# Altium footprint library MLB_PCBLib.PcbLib: 75 footprints (part 5 of 5)
Each footprint in its own frame and in the unit in brackets; x right, y up, seen from the top. Pads: shape width x height; smd on the part's side, far side on the other; paste and mask are expansions set on the pad; w line width, h text height; cw(c..) or ccw(c..) is an arc to the next point about the centre after c.
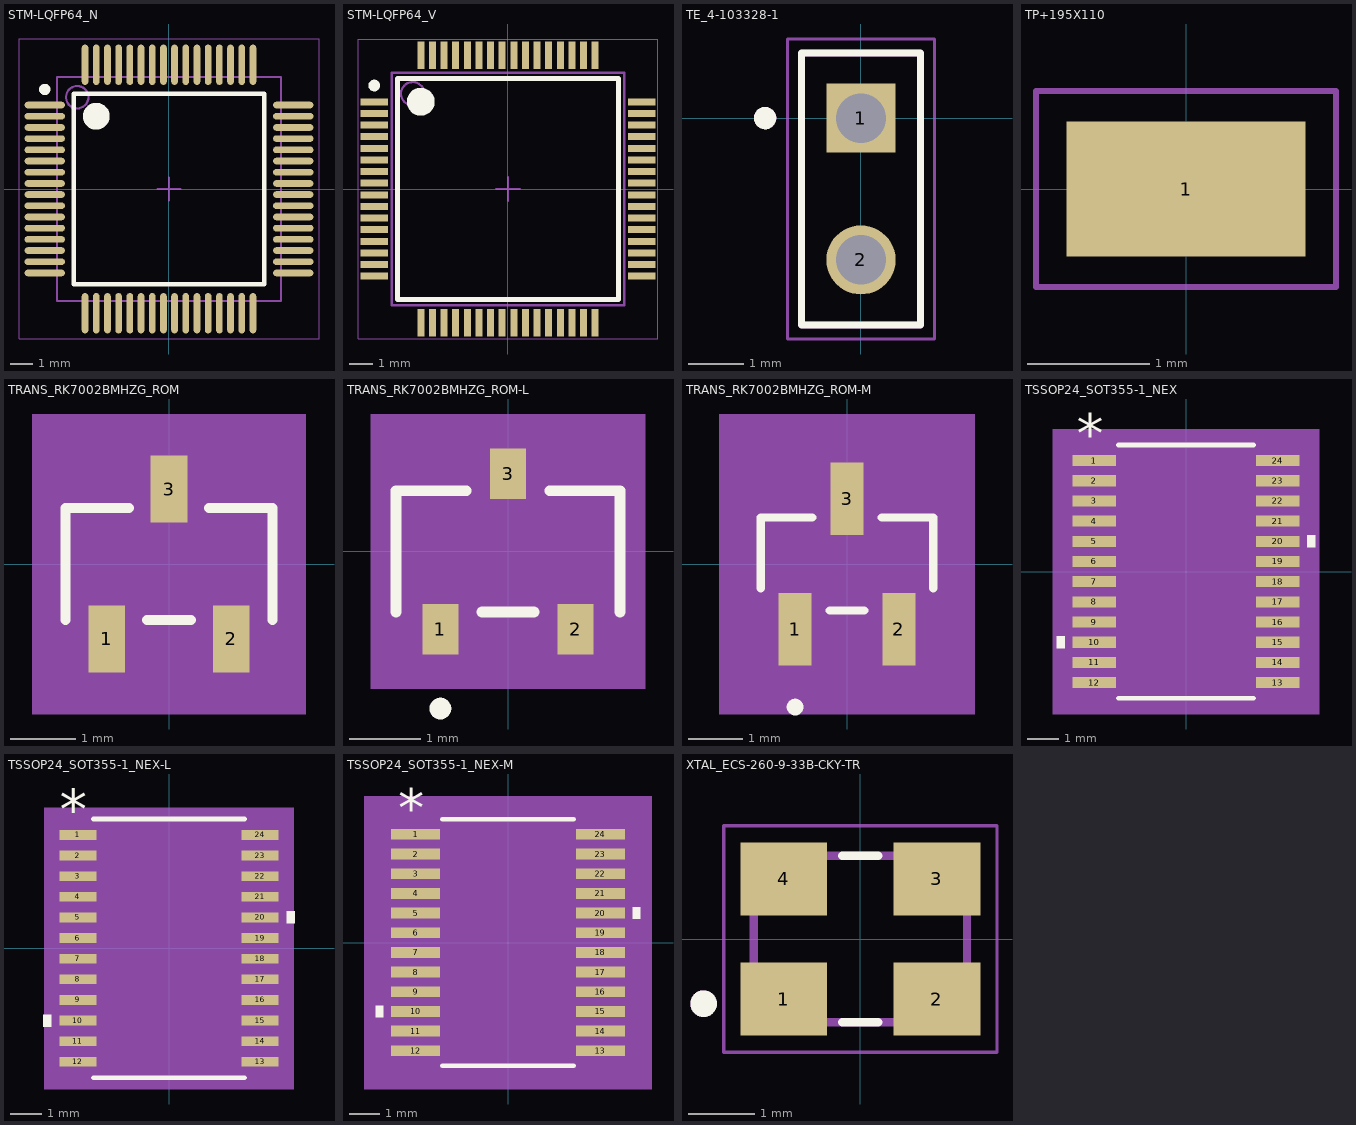
[diagram p4: the footprints below, top view; thin cyan lines are the x and y axes]

## STM-LQFP64_N [mm] "Thin QFP, 64-Leads, Body 10x10mm, Pitch 0.5mm, IPC Medium Density"
height 1.6
pads (64):
  oval 1.8x0.3 smd: 1(-5.55,3.75) 2(-5.55,3.25) 3(-5.55,2.75) 4(-5.55,2.25) 5(-5.55,1.75) 6(-5.55,1.25) 7(-5.55,0.75) 8(-5.55,0.25) 9(-5.55,-0.25) 10(-5.55,-0.75) 11(-5.55,-1.25) 12(-5.55,-1.75) 13(-5.55,-2.25) 14(-5.55,-2.75) 15(-5.55,-3.25) 16(-5.55,-3.75) 33(5.55,-3.75) 34(5.55,-3.25) 35(5.55,-2.75) 36(5.55,-2.25) 37(5.55,-1.75) 38(5.55,-1.25) 39(5.55,-0.75) 40(5.55,-0.25) 41(5.55,0.25) 42(5.55,0.75) 43(5.55,1.25) 44(5.55,1.75) 45(5.55,2.25) 46(5.55,2.75) 47(5.55,3.25) 48(5.55,3.75)
  oval 0.3x1.8 smd: 17(-3.75,-5.55) 18(-3.25,-5.55) 19(-2.75,-5.55) 20(-2.25,-5.55) 21(-1.75,-5.55) 22(-1.25,-5.55) 23(-0.75,-5.55) 24(-0.25,-5.55) 25(0.25,-5.55) 26(0.75,-5.55) 27(1.25,-5.55) 28(1.75,-5.55) 29(2.25,-5.55) 30(2.75,-5.55) 31(3.25,-5.55) 32(3.75,-5.55) 49(3.75,5.55) 50(3.25,5.55) 51(2.75,5.55) 52(2.25,5.55) 53(1.75,5.55) 54(1.25,5.55) 55(0.75,5.55) 56(0.25,5.55) 57(-0.25,5.55) 58(-0.75,5.55) 59(-1.25,5.55) 60(-1.75,5.55) 61(-2.25,5.55) 62(-2.75,5.55) 63(-3.25,5.55) 64(-3.75,5.55)
Top Overlay:
  circle w0.25: c-5.55,4.45 r0.125
  circle w0.6: c-3.25,3.25 r0.3
  lines w0.2: -4.25,-4.25 -4.25,4.25 4.25,4.25 4.25,-4.25 -4.25,-4.25
Mechanical 13:
  circle w0.1: c-4.1,4.1 r0.5
  lines w0.1: -5,-5 -5,5 5,5 5,-5 -5,-5
Mechanical 15:
  lines w0.05: -6.7,-6.7 -6.7,6.7 6.7,6.7 6.7,-6.7 -6.7,-6.7
  lines w0.1: -0.5,0 0.5,0 ; 0,-0.5 0,0.5
3D body: height 1.6, standoff 0.05, extent -5,-5 5,5

## STM-LQFP64_V [mm] "Thin QFP, 64-Leads, Body 10x10mm, Pitch 0.5mm, ST Recommended"
height 1.6
pads (64):
  rect 1.2x0.3 smd: 1(-5.75,3.75) 2(-5.75,3.25) 3(-5.75,2.75) 4(-5.75,2.25) 5(-5.75,1.75) 6(-5.75,1.25) 7(-5.75,0.75) 8(-5.75,0.25) 9(-5.75,-0.25) 10(-5.75,-0.75) 11(-5.75,-1.25) 12(-5.75,-1.75) 13(-5.75,-2.25) 14(-5.75,-2.75) 15(-5.75,-3.25) 16(-5.75,-3.75) 33(5.75,-3.75) 34(5.75,-3.25) 35(5.75,-2.75) 36(5.75,-2.25) 37(5.75,-1.75) 38(5.75,-1.25) 39(5.75,-0.75) 40(5.75,-0.25) 41(5.75,0.25) 42(5.75,0.75) 43(5.75,1.25) 44(5.75,1.75) 45(5.75,2.25) 46(5.75,2.75) 47(5.75,3.25) 48(5.75,3.75)
  rect 0.3x1.2 smd: 17(-3.75,-5.75) 18(-3.25,-5.75) 19(-2.75,-5.75) 20(-2.25,-5.75) 21(-1.75,-5.75) 22(-1.25,-5.75) 23(-0.75,-5.75) 24(-0.25,-5.75) 25(0.25,-5.75) 26(0.75,-5.75) 27(1.25,-5.75) 28(1.75,-5.75) 29(2.25,-5.75) 30(2.75,-5.75) 31(3.25,-5.75) 32(3.75,-5.75) 49(3.75,5.75) 50(3.25,5.75) 51(2.75,5.75) 52(2.25,5.75) 53(1.75,5.75) 54(1.25,5.75) 55(0.75,5.75) 56(0.25,5.75) 57(-0.25,5.75) 58(-0.75,5.75) 59(-1.25,5.75) 60(-1.75,5.75) 61(-2.25,5.75) 62(-2.75,5.75) 63(-3.25,5.75) 64(-3.75,5.75)
Top Overlay:
  circle w0.6: c-3.75,3.75 r0.3
  circle w0.25: c-5.75,4.45 r0.125
  lines w0.2: -4.75,-4.75 4.75,-4.75 4.75,4.75 -4.75,4.75 -4.75,-4.75
Mechanical 13:
  circle w0.1: c-4.1,4.1 r0.5
  lines w0.1: -5,-5 5,-5 5,5 -5,5 -5,-5
Mechanical 15:
  lines w0.05: -6.45,-6.45 6.45,-6.45 6.45,6.45 -6.45,6.45 -6.45,-6.45
  lines w0.1: -0.5,0 0.5,0 ; 0,-0.5 0,0.5
3D body: height 1.6, standoff 0.05, extent -5,-5 5,5

## TE_4-103328-1 [mm]
pads (2):
  rect 1.24x1.24 hole 0.89: 1(0,0)
  round 1.24 hole 0.89: 2(0,-2.54)
Top Overlay:
  circle w0.2: c-1.717,0 r0.1
  lines w0.127: -1.067,-3.708 1.067,-3.708 1.067,1.168 -1.067,1.168 -1.067,-3.708
Mechanical 13:
  circle w0.2: c-1.717,0 r0.1
  lines w0.127: -1.067,-3.708 1.067,-3.708 ; -1.067,-3.708 1.067,-3.708 ; -1.067,-3.708 -1.067,1.168 1.067,1.168 1.067,-3.708
Mechanical 15:
  lines w0.05: -1.317,-3.958 1.317,-3.958 1.317,1.418 -1.317,1.418 -1.317,-3.958

## TP+195X110 [mm]
pads (1):
  rect 1.95x1.1 smd: 1(0,0)
Mechanical 13:
  lines w0.127: -0.8,-0.45 -0.8,0.45 0.8,0.45 0.8,-0.45 -0.8,-0.45
Mechanical 15:
  lines w0.05: -1.225,-0.8 -1.225,0.8 1.225,0.8 1.225,-0.8 -1.225,-0.8
3D body "step_temp.STEP": height 0.58, standoff -0.58, extent -0.8,-0.42 0.8,0.42

## TRANS_RK7002BMHZG_ROM [mil]
pads (3):
  rect 22x40 smd paste+0 mask+0: 1(-37.4,-45) 2(37.4,-45) 3(0,45)
Top Overlay:
  lines w6: -62,-33.5 -62,33.5 -24.1,33.5 ; -13.3,-33.5 13.3,-33.5 ; 24.1,33.5 62,33.5 62,-33.5
Mechanical 5:
  region: -82,90 82,90 82,-90 -82,-90
Mechanical 13:
  lines w1: -57,-28.5 57,-28.5 57,28.5 -57,28.5 -57,-28.5 ; -47.4,-51 -47.4,-28.5 -27.4,-28.5 -27.4,-51 -47.4,-51 ; -10,28.5 10,28.5 10,51 -10,51 -10,28.5 ; 27.4,-51 27.4,-28.5 47.4,-28.5 47.4,-51 27.4,-51
Mechanical 15:
  region: -67,-38.5 -67,38.5 -20,38.5 -20,75 20,75 20,38.5 67,38.5 67,-38.5 57.4,-38.5 57.4,-75 -57.4,-75 -57.4,-38.5
  lines w6: -67,-38.5 -67,38.5 -20,38.5 -20,75 20,75 20,38.5 67,38.5 67,-38.5 57.4,-38.5 57.4,-75 -57.4,-75 -57.4,-38.5 -67,-38.5
3D body "TRANS_RK7002BMHZG_ROM.step": height 47.09, standoff 0, extent -57.01,-50.98 57.01,50.98

## TRANS_RK7002BMHZG_ROM-L [mil]
pads (3):
  rect 20x28 smd paste+0 mask+0: 1(-37.4,-43) 2(37.4,-43) 3(0,43)
Top Overlay:
  circle w6: c-37.4,-87 r3
  lines w6: -62,-33.5 -62,33.5 -23.1,33.5 ; -14.3,-33.5 14.3,-33.5 ; 23.1,33.5 62,33.5 62,-33.5
Mechanical 5:
  region: -76,76 76,76 76,-76 -76,-76
Mechanical 13:
  circle w0: c-37.4,-18.5 r3
  lines w1: -57,-28.5 57,-28.5 57,28.5 -57,28.5 -57,-28.5 ; -47.4,-51 -47.4,-28.5 -27.4,-28.5 -27.4,-51 -47.4,-51 ; -10,28.5 10,28.5 10,51 -10,51 -10,28.5 ; 27.4,-51 27.4,-28.5 47.4,-28.5 47.4,-51 27.4,-51
Mechanical 15:
  region: -61,-32.5 -61,32.5 -14,32.5 -14,61 14,61 14,32.5 61,32.5 61,-32.5 51.4,-32.5 51.4,-61 -51.4,-61 -51.4,-32.5
  lines w6: -61,-32.5 -61,32.5 -14,32.5 -14,61 14,61 14,32.5 61,32.5 61,-32.5 51.4,-32.5 51.4,-61 -51.4,-61 -51.4,-32.5 -61,-32.5
3D body "TRANS_RK7002BMHZG_ROM.step": height 47.09, standoff 0, extent -57.01,-50.98 57.01,50.98

## TRANS_RK7002BMHZG_ROM-M [mil]
pads (3):
  rect 24x52 smd paste+0 mask+0: 1(-37.4,-47) 2(37.4,-47) 3(0,47)
Top Overlay:
  circle w6: c-37.4,-103 r3
  lines w6: -62,-17.41 -62,33.5 -25.1,33.5 ; -12.3,-33.5 12.3,-33.5 ; 25.1,33.5 62,33.5 62,-17.41
Mechanical 5:
  region: -92,108 92,108 92,-108 -92,-108
Mechanical 13:
  circle w0: c-37.4,-18.5 r3
  lines w1: -57,-28.5 -57,28.5 57,28.5 57,-28.5 -57,-28.5 ; -47.4,-51 -27.4,-51 -27.4,-28.5 -47.4,-28.5 -47.4,-51 ; -10,28.5 -10,51 10,51 10,28.5 -10,28.5 ; 27.4,-51 47.4,-51 47.4,-28.5 27.4,-28.5 27.4,-51
Mechanical 15:
  region: -77,-48.5 -77,48.5 -30,48.5 -30,93 30,93 30,48.5 77,48.5 77,-48.5 67.4,-48.5 67.4,-93 -67.4,-93 -67.4,-48.5
  lines w6: -77,-48.5 -67.4,-48.5 -67.4,-93 67.4,-93 67.4,-48.5 77,-48.5 77,48.5 30,48.5 30,93 -30,93 -30,48.5 -77,48.5 -77,-48.5
3D body "TRANS_RK7002BMHZG_ROM.step": height 47.09, standoff 0, extent -57.01,-50.98 57.01,50.98

## TSSOP24_SOT355-1_NEX [mil]
pads (24):
  rect 55.5x14 smd paste+0 mask+0: 1(-116.25,140.75) 2(-116.25,115.16) 3(-116.25,89.57) 4(-116.25,63.98) 5(-116.25,38.39) 6(-116.25,12.8) 7(-116.25,-12.8) 8(-116.25,-38.39) 9(-116.25,-63.98) 10(-116.25,-89.57) 11(-116.25,-115.16) 12(-116.25,-140.75) 13(116.25,-140.75) 14(116.25,-115.16) 15(116.25,-89.57) 16(116.25,-63.98) 17(116.25,-38.39) 18(116.25,-12.8) 19(116.25,12.8) 20(116.25,38.39) 21(116.25,63.98) 22(116.25,89.57) 23(116.25,115.16) 24(116.25,140.75)
Top Overlay:
  region: -154,-82.07 -164,-82.07 -164,-97.07 -154,-97.07
  region: 154,45.89 164,45.89 164,30.89 154,30.89
  lines w6: -85.5,-160.5 85.5,-160.5 ; -85.5,160.5 85.5,160.5
  text "*" at -138.75,149.75 h50
Mechanical 5:
  region: 169,-180.5 -169,-180.5 -169,180.5 169,180.5
Mechanical 13:
  lines w0: -12,155.5 ccw(c0,155.5) 12,155.5
  lines w1: -130,-146.75 -130,-134.75 -88.5,-134.75 -88.5,-146.75 -130,-146.75 ; -130,-121.16 -130,-109.16 -88.5,-109.16 -88.5,-121.16 -130,-121.16 ; -130,-95.57 -130,-83.57 -88.5,-83.57 -88.5,-95.57 -130,-95.57 ; -130,-69.98 -130,-57.98 -88.5,-57.98 -88.5,-69.98 -130,-69.98 ; -130,-44.39 -130,-32.39 -88.5,-32.39 -88.5,-44.39 -130,-44.39 ; -130,-18.8 -130,-6.8 -88.5,-6.8 -88.5,-18.8 -130,-18.8 ; -130,6.8 -130,18.8 -88.5,18.8 -88.5,6.8 -130,6.8 ; -130,32.39 -130,44.39 -88.5,44.39 -88.5,32.39 -130,32.39 ; -130,57.98 -130,69.98 -88.5,69.98 -88.5,57.98 -130,57.98 ; -130,83.57 -130,95.57 -88.5,95.57 -88.5,83.57 -130,83.57 ; -130,109.16 -130,121.16 -88.5,121.16 -88.5,109.16 -130,109.16 ; -130,134.75 -130,146.75 -88.5,146.75 -88.5,134.75 -130,134.75 ; -88.5,-155.5 88.5,-155.5 88.5,155.5 -88.5,155.5 -88.5,-155.5 ; 88.5,-146.75 88.5,-134.75 130,-134.75 130,-146.75 88.5,-146.75 ; 88.5,-121.16 88.5,-109.16 130,-109.16 130,-121.16 88.5,-121.16 ; 88.5,-95.57 88.5,-83.57 130,-83.57 130,-95.57 88.5,-95.57 ; 88.5,-69.98 88.5,-57.98 130,-57.98 130,-69.98 88.5,-69.98 ; 88.5,-44.39 88.5,-32.39 130,-32.39 130,-44.39 88.5,-44.39 ; 88.5,-18.8 88.5,-6.8 130,-6.8 130,-18.8 88.5,-18.8 ; 88.5,6.8 88.5,18.8 130,18.8 130,6.8 88.5,6.8 ; 88.5,32.39 88.5,44.39 130,44.39 130,32.39 88.5,32.39 ; 88.5,57.98 88.5,69.98 130,69.98 130,57.98 88.5,57.98 ; 88.5,83.57 88.5,95.57 130,95.57 130,83.57 88.5,83.57 ; 88.5,109.16 88.5,121.16 130,121.16 130,109.16 88.5,109.16 ; 88.5,134.75 88.5,146.75 130,146.75 130,134.75 88.5,134.75
  text "*" at -86,102.5 h50
Mechanical 15:
  region: -98.5,-157.75 -154,-157.75 -154,157.75 -98.5,157.75 -98.5,165.5 98.5,165.5 98.5,157.75 154,157.75 154,-157.75 98.5,-157.75 98.5,-165.5 -98.5,-165.5
  lines w6: -154,-157.75 -154,157.75 -98.5,157.75 -98.5,165.5 98.5,165.5 98.5,157.75 154,157.75 154,-157.75 98.5,-157.75 98.5,-165.5 -98.5,-165.5 -98.5,-157.75 -154,-157.75
3D body "TSSOP24_SOT355-1_NEX.step": height 43.11, standoff 0, extent -130,-155.51 130,155.51

## TSSOP24_SOT355-1_NEX-L [mil]
pads (24):
  rect 46x12 smd paste+0 mask+0: 1(-113,140.75) 2(-113,115.16) 3(-113,89.57) 4(-113,63.98) 5(-113,38.39) 6(-113,12.8) 7(-113,-12.8) 8(-113,-38.39) 9(-113,-63.98) 10(-113,-89.57) 11(-113,-115.16) 12(-113,-140.75) 13(113,-140.75) 14(113,-115.16) 15(113,-89.57) 16(113,-63.98) 17(113,-38.39) 18(113,-12.8) 19(113,12.8) 20(113,38.39) 21(113,63.98) 22(113,89.57) 23(113,115.16) 24(113,140.75)
Top Overlay:
  region: 146,45.89 156,45.89 156,30.89 146,30.89
  region: -146,-82.07 -156,-82.07 -156,-97.07 -146,-97.07
  lines w6: -93.5,-160.5 93.5,-160.5 ; -93.5,160.5 93.5,160.5
  text "*" at -135.5,147.75 h50
Mechanical 5:
  region: 155,-174.5 -155,-174.5 -155,174.5 155,174.5
Mechanical 13:
  lines w0: -12,155.5 ccw(c0,155.5) 12,155.5
  lines w1: -130,-146.75 -88.5,-146.75 -88.5,-134.75 -130,-134.75 -130,-146.75 ; -130,-121.16 -88.5,-121.16 -88.5,-109.16 -130,-109.16 -130,-121.16 ; -130,-95.57 -88.5,-95.57 -88.5,-83.57 -130,-83.57 -130,-95.57 ; -130,-69.98 -88.5,-69.98 -88.5,-57.98 -130,-57.98 -130,-69.98 ; -130,-44.39 -88.5,-44.39 -88.5,-32.39 -130,-32.39 -130,-44.39 ; -130,-18.8 -88.5,-18.8 -88.5,-6.8 -130,-6.8 -130,-18.8 ; -130,6.8 -88.5,6.8 -88.5,18.8 -130,18.8 -130,6.8 ; -130,32.39 -88.5,32.39 -88.5,44.39 -130,44.39 -130,32.39 ; -130,57.98 -88.5,57.98 -88.5,69.98 -130,69.98 -130,57.98 ; -130,83.57 -88.5,83.57 -88.5,95.57 -130,95.57 -130,83.57 ; -130,109.16 -88.5,109.16 -88.5,121.16 -130,121.16 -130,109.16 ; -130,134.75 -88.5,134.75 -88.5,146.75 -130,146.75 -130,134.75 ; -88.5,-155.5 -88.5,155.5 88.5,155.5 88.5,-155.5 -88.5,-155.5 ; 88.5,-146.75 130,-146.75 130,-134.75 88.5,-134.75 88.5,-146.75 ; 88.5,-121.16 130,-121.16 130,-109.16 88.5,-109.16 88.5,-121.16 ; 88.5,-95.57 130,-95.57 130,-83.57 88.5,-83.57 88.5,-95.57 ; 88.5,-69.98 130,-69.98 130,-57.98 88.5,-57.98 88.5,-69.98 ; 88.5,-44.39 130,-44.39 130,-32.39 88.5,-32.39 88.5,-44.39 ; 88.5,-18.8 130,-18.8 130,-6.8 88.5,-6.8 88.5,-18.8 ; 88.5,6.8 130,6.8 130,18.8 88.5,18.8 88.5,6.8 ; 88.5,32.39 130,32.39 130,44.39 88.5,44.39 88.5,32.39 ; 88.5,57.98 130,57.98 130,69.98 88.5,69.98 88.5,57.98 ; 88.5,83.57 130,83.57 130,95.57 88.5,95.57 88.5,83.57 ; 88.5,109.16 130,109.16 130,121.16 88.5,121.16 88.5,109.16 ; 88.5,134.75 130,134.75 130,146.75 88.5,146.75 88.5,134.75
  text "*" at -86,102.5 h50
Mechanical 15:
  region: -92.5,-150.75 -140,-150.75 -140,150.75 -92.5,150.75 -92.5,159.5 92.5,159.5 92.5,150.75 140,150.75 140,-150.75 92.5,-150.75 92.5,-159.5 -92.5,-159.5
  lines w6: -140,-150.75 -92.5,-150.75 -92.5,-159.5 92.5,-159.5 92.5,-150.75 140,-150.75 140,150.75 92.5,150.75 92.5,159.5 -92.5,159.5 -92.5,150.75 -140,150.75 -140,-150.75
3D body "TSSOP24_SOT355-1_NEX.step": height 43.11, standoff 0, extent -130,-155.51 130,155.51

## TSSOP24_SOT355-1_NEX-M [mil]
pads (24):
  rect 63.5x14 smd paste+0 mask+0: 1(-120.25,140.75) 2(-120.25,115.16) 3(-120.25,89.57) 4(-120.25,63.98) 5(-120.25,38.39) 6(-120.25,12.8) 7(-120.25,-12.8) 8(-120.25,-38.39) 9(-120.25,-63.98) 10(-120.25,-89.57) 11(-120.25,-115.16) 12(-120.25,-140.75) 13(120.25,-140.75) 14(120.25,-115.16) 15(120.25,-89.57) 16(120.25,-63.98) 17(120.25,-38.39) 18(120.25,-12.8) 19(120.25,12.8) 20(120.25,38.39) 21(120.25,63.98) 22(120.25,89.57) 23(120.25,115.16) 24(120.25,140.75)
Top Overlay:
  region: 162,45.89 172,45.89 172,30.89 162,30.89
  region: -162,-82.07 -172,-82.07 -172,-97.07 -162,-97.07
  lines w6: -85.5,-160.5 85.5,-160.5 ; -85.5,160.5 85.5,160.5
  text "*" at -142.75,149.75 h50
Mechanical 5:
  region: 187,-190.5 -187,-190.5 -187,190.5 187,190.5
Mechanical 13:
  lines w0: -12,155.5 ccw(c0,155.5) 12,155.5
  lines w1: -130,-146.75 -88.5,-146.75 -88.5,-134.75 -130,-134.75 -130,-146.75 ; -130,-121.16 -88.5,-121.16 -88.5,-109.16 -130,-109.16 -130,-121.16 ; -130,-95.57 -88.5,-95.57 -88.5,-83.57 -130,-83.57 -130,-95.57 ; -130,-69.98 -88.5,-69.98 -88.5,-57.98 -130,-57.98 -130,-69.98 ; -130,-44.39 -88.5,-44.39 -88.5,-32.39 -130,-32.39 -130,-44.39 ; -130,-18.8 -88.5,-18.8 -88.5,-6.8 -130,-6.8 -130,-18.8 ; -130,6.8 -88.5,6.8 -88.5,18.8 -130,18.8 -130,6.8 ; -130,32.39 -88.5,32.39 -88.5,44.39 -130,44.39 -130,32.39 ; -130,57.98 -88.5,57.98 -88.5,69.98 -130,69.98 -130,57.98 ; -130,83.57 -88.5,83.57 -88.5,95.57 -130,95.57 -130,83.57 ; -130,109.16 -88.5,109.16 -88.5,121.16 -130,121.16 -130,109.16 ; -130,134.75 -88.5,134.75 -88.5,146.75 -130,146.75 -130,134.75 ; -88.5,-155.5 -88.5,155.5 88.5,155.5 88.5,-155.5 -88.5,-155.5 ; 88.5,-146.75 130,-146.75 130,-134.75 88.5,-134.75 88.5,-146.75 ; 88.5,-121.16 130,-121.16 130,-109.16 88.5,-109.16 88.5,-121.16 ; 88.5,-95.57 130,-95.57 130,-83.57 88.5,-83.57 88.5,-95.57 ; 88.5,-69.98 130,-69.98 130,-57.98 88.5,-57.98 88.5,-69.98 ; 88.5,-44.39 130,-44.39 130,-32.39 88.5,-32.39 88.5,-44.39 ; 88.5,-18.8 130,-18.8 130,-6.8 88.5,-6.8 88.5,-18.8 ; 88.5,6.8 130,6.8 130,18.8 88.5,18.8 88.5,6.8 ; 88.5,32.39 130,32.39 130,44.39 88.5,44.39 88.5,32.39 ; 88.5,57.98 130,57.98 130,69.98 88.5,69.98 88.5,57.98 ; 88.5,83.57 130,83.57 130,95.57 88.5,95.57 88.5,83.57 ; 88.5,109.16 130,109.16 130,121.16 88.5,121.16 88.5,109.16 ; 88.5,134.75 130,134.75 130,146.75 88.5,146.75 88.5,134.75
  text "*" at -86,102.5 h50
Mechanical 15:
  region: -108.5,-167.75 -172,-167.75 -172,167.75 -108.5,167.75 -108.5,175.5 108.5,175.5 108.5,167.75 172,167.75 172,-167.75 108.5,-167.75 108.5,-175.5 -108.5,-175.5
  lines w6: -172,-167.75 -108.5,-167.75 -108.5,-175.5 108.5,-175.5 108.5,-167.75 172,-167.75 172,167.75 108.5,167.75 108.5,175.5 -108.5,175.5 -108.5,167.75 -172,167.75 -172,-167.75
3D body "TSSOP24_SOT355-1_NEX.step": height 43.11, standoff 0, extent -130,-155.51 130,155.51

## XTAL_ECS-260-9-33B-CKY-TR [mm]
pads (4):
  rect 1.3x1.1 smd: 1(-1.15,-0.9) 2(1.15,-0.9) 3(1.15,0.9) 4(-1.15,0.9)
Top Overlay:
  circle w0.2: c-2.35,-0.97 r0.1
  lines w0.127: -0.27,-1.25 0.27,-1.25 ; -0.27,1.25 0.27,1.25
Mechanical 13:
  circle w0.2: c-2.35,-0.97 r0.1
  lines w0.127: -1.6,-1.25 -1.6,1.25 1.6,1.25 1.6,-1.25 -1.6,-1.25
Mechanical 15:
  lines w0.05: -2.05,-1.7 -2.05,1.7 2.05,1.7 2.05,-1.7 -2.05,-1.7